# EAGLE library part TPS74801DRC (library ds_ic_vreg)
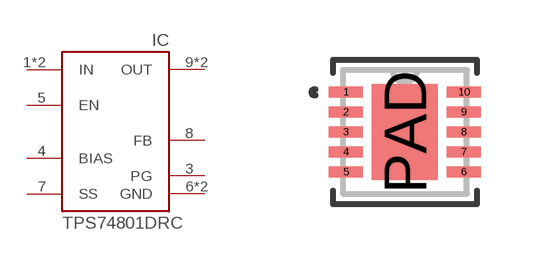
[diagram p1: symbol with the pads of VSON10-3X3; footprint VSON10-3X3]

Designator prefix IC

## TPS74801DRC (DESCRIPTION: Low-Dropout Linear Regulator With Programmable Soft-Start; MANUFACTURER: Texas Instruments; MPN: TPS74801DRCR; ROHS: YES; VALUE: TPS74801DRCR; VIN: 0.8V to 5.5V; VOUT: 0.8V to 3.6V)  [VSON10-3X3]
1  IN  pwr
2  IN  pwr
3  PG  out
4  BIAS
5  EN
6  GND  pwr
7  SS
8  FB  in
9  OUT  pwr
10  OUT  pwr
PAD  GND  pwr

## Footprint VSON10-3X3 (pad centres in mm)
smd 0.85 x 0.28: 1 -1.475,1; 2 -1.475,0.5; 3 -1.475,0; 4 -1.475,-0.5; 5 -1.475,-1; 6 1.475,-1; 7 1.475,-0.5; 8 1.475,0; 9 1.475,0.5; 10 1.475,1
smd 1.65 x 2.4: PAD 0,0